# EAGLE library part 6861XX188622_686104188622 (library 68611414422)
WR-FPC 1.00 mm SMT LIF Horizontal Top Contact KIND PROPERTIES Pitch 1 mm MATERIAL PROPERTIES Insulator Material LCP Contact Material Phosphor Bronze Contact Plating 2.032µm Tin over 1.27µm Nickel Contact Type Stamped Solder Tabs Brass <https://www.we-online.com/catalog/media/o162362v209%20Family_ConFPC_686118188622.jpg> Details see: https://www.we-online.com/catalog/en/em/FPC_1_00_SMT_LIF_HORIZONTAL_TOP_CONTACT_6861xx188622 Updated by Ella Wu 2020-08-26 2020(C) Wurth Elektronik
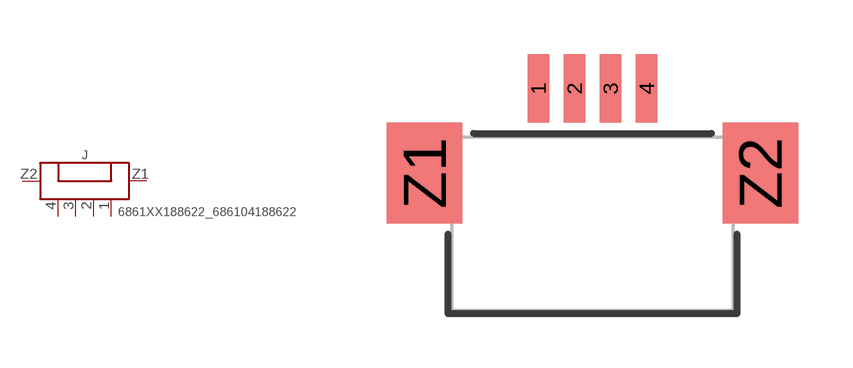
[diagram p100: symbol with the pads of 686104188622; footprint 686104188622]

Designator prefix J

## 6861XX188622_686104188622 (CONTACT-RESISTANCE: 30mOhm; DATASHEET-URL: https://www.we-online.com/catalog/datasheet/686104188622.pdf; IR: 1A; L: 7.8mm; PACKAGING: Tape and Reel; PART-NUMBER: 686104188622; PINS: 4; PITCH: 1mm; TYPE: Horizontal; VALUE: 686104188622; WORKING-VOLTAGE: 125V(AC))  [686104188622]
1  1  pas
2  2  pas
3  3  pas
4  4  pas
Z1  Z1  pas
Z2  Z2  pas

## Footprint 686104188622 (pad centres in mm)
WR-FPC 1.00 mm SMT LIF Horizontal Top Contact,4 Pins
smd 0.6 x 1.9: 1 -1.5,2.95; 2 -0.5,2.95; 3 0.5,2.95; 4 1.5,2.95
smd 2.1 x 2.8: Z1 -4.65,0.6; Z2 4.65,0.6